# Altium footprint library KEY_L_F.PcbLib: 1 footprints
Each footprint in its own frame and in the unit in brackets; x right, y up, seen from the top. Pads: shape width x height; smd on the part's side, far side on the other; paste and mask are expansions set on the pad; w line width, h text height; cw(c..) or ccw(c..) is an arc to the next point about the centre after c.
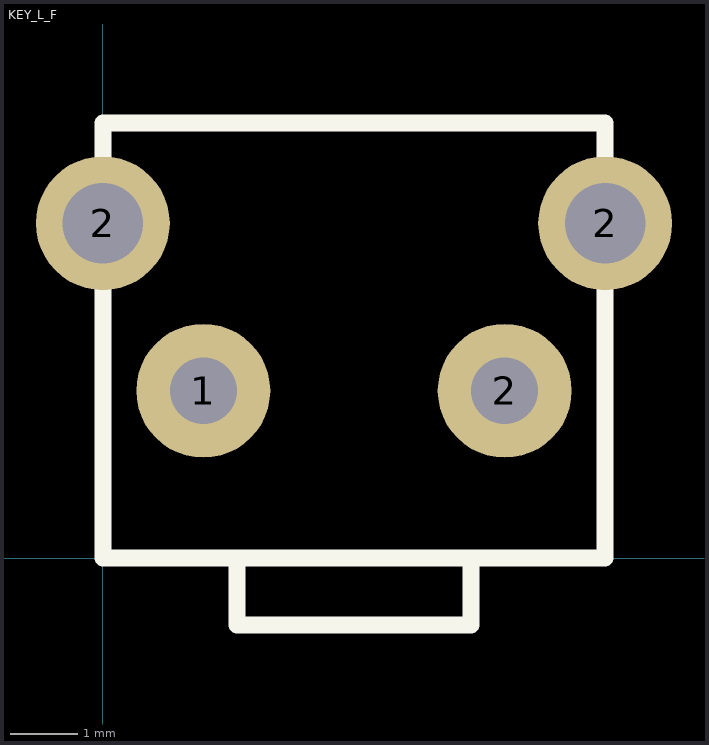
[diagram p0: the footprint, top view; thin cyan lines are the x and y axes]

## KEY_L_F [mm]
pads (4):
  round 2 hole 1: 1(1.5,2.5) 2(6,2.5)
  round 2 hole 1.2: 2(0,5) 2(7.5,5)
Top Overlay:
  lines w0.254: 2,0 2,-1 5.5,-1 5.5,0 ; 0,0 7.5,0 7.5,6.5 0,6.5 0,0